# Altium footprint library USBLC62P6.PcbLib: 1 footprints
Each footprint in its own frame and in the unit in brackets; x right, y up, seen from the top. Pads: shape width x height; smd on the part's side, far side on the other; paste and mask are expansions set on the pad; w line width, h text height; cw(c..) or ccw(c..) is an arc to the next point about the centre after c.
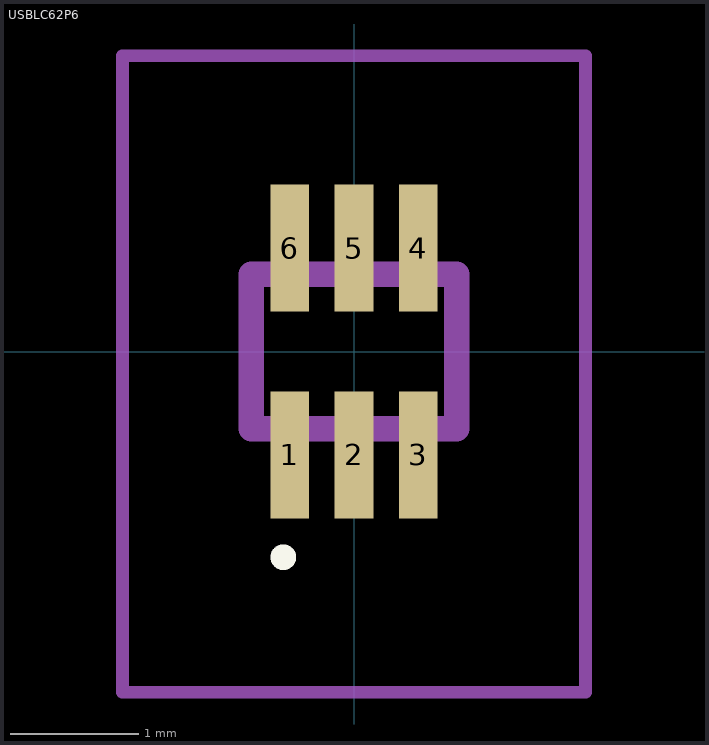
[diagram p0: the footprint, top view; thin cyan lines are the x and y axes]

## USBLC62P6 [mm]
pads (6):
  rect 0.3x0.99 smd: 1(-0.5,-0.805) 2(0,-0.805) 3(0.5,-0.805) 4(0.5,0.805) 5(0,0.805) 6(-0.5,0.805)
Top Overlay:
  lines w0.1: -0.6,-1.6 -0.6,-1.6 ; -0.6,-1.6 ccw(c-0.55,-1.6) -0.5,-1.6 ; -0.6,-1.6 cw(c-0.55,-1.6) -0.5,-1.6 ; -0.5,-1.6 -0.5,-1.6
Mechanical 15:
  lines w0.2: -0.8,-0.6 0.8,-0.6 0.8,0.6 -0.8,0.6 -0.8,-0.6
Mechanical 20:
  lines w0.1: -1.8,-2.65 1.8,-2.65 1.8,2.3 -1.8,2.3 -1.8,-2.65